# EAGLE library part MCP2221A (library m_ic-comm)
MCP2221A USB 2.0 to I2C/UART Protocol Converter with GPIO Summary The MCP2221A is a USB-to-UART/I2C serial converter which enables USB connectivity in applications that have a UART and I2C interfaces. The device reduces external components by integrating the USB termination resistors and the oscillator needed for USB operation. The MCP2221A also has four GP pins providing miscellaneous functionalities (GPIO, USBCFG, SSPND, Clock Output, ADC, DAC, interrupt detector). The MCP2221A is identical to the MCP2221 in all aspects except for the maximum supported baud rate of the UART, which has been increased from 115200 (MCP2221) to 460800 (MCP2221A). All MCP2221 USB Drivers and Software can be used for the MCP2221A. Additional Features Universal Serial Bus (USB) Supports full-speed USB (12 Mb/s) Implements USB protocol composite device: Communication Device Class (CDC) for communications and configuration Human Interface Device (HID) for I2C™, chip control and configuration 128-byte Buffer to handle data throughput at any UART baud rate: 64-byte Transmit 64-byte Receive Human Interface Device (HID) for both I2C™ communication and control. 64 byte buffer to handle data throughput at any I2C™ baud rate Fully configurable VID and PID assignments, and string descriptors Bus-powered or self-powered USB 2.0 Compliant USB Driver and Software Support CDC and Universal Asynchronous Receiver/Transmitter (UART) Options I2C™/SMBus SMBus Master General Purpose Input/Output (GPIO) Pins Highly Configurable Operating voltage: 3.0 – 5.5V Electrostatic Discharge (ESD) protection: 4 kV Human Body Model (HBM) Industrial (I) Operating Temperature: -40°C to +85°C Octopart Search <https://octopart.com/search?q=MCP2221A*%2FSL> Added 2019-11-02
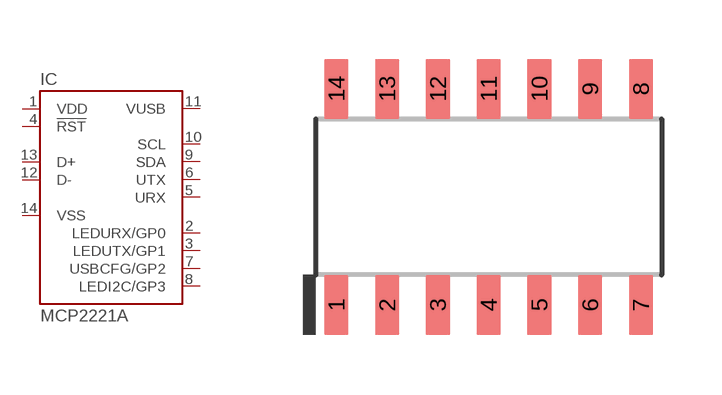
[diagram p8: symbol with the pads of SOIC-14; footprint SOIC-14]

Designator prefix IC

## MCP2221A/SL (MANUF: Microchip; PARTNUM: MCP2221A*/SL; VALUE: MCP2221A)  [SOIC-14]
1  VDD  pas
2  LEDURX/GP0  pas
3  LEDUTX/GP1  pas
4  !RST  pas
5  URX  pas
6  UTX  pas
7  USBCFG/GP2  pas
8  LEDI2C/GP3  pas
9  SDA  pas
10  SCL  pas
11  VUSB  pas
12  D-  pas
13  D+  pas
14  VSS  pas

## Footprint SOIC-14 (pad centres in mm)
14-Lead Plastic Small Outline (SL) - Narrow, 3.90 mm Body [SOIC] Based on data from Microchip document DS20005565A, drawing nummber C04-065C, C04-2065A
smd 0.6 x 1.5: 1 -3.81,-2.7; 2 -2.54,-2.7; 3 -1.27,-2.7; 4 0,-2.7; 5 1.27,-2.7; 6 2.54,-2.7; 7 3.81,-2.7; 8 3.81,2.7; 9 2.54,2.7; 10 1.27,2.7; 11 0,2.7; 12 -1.27,2.7; 13 -2.54,2.7; 14 -3.81,2.7